# EAGLE library part OKOKOKEAGLELIBRARIES_LTC3122 (library rose)
LTC3122 DATASHEET:http://cds.linear.com/docs/en/datasheet/3122fa.pdf The LTC®3122 is a synchronous step-up DC/DC converter with true output disconnect and inrush current limiting. The 2.5A current limit along with the ability to program output voltages up to 15V makes the LTC3122 well suited for a variety of demanding applications. Once started, operation will continue with inputs down to 500mV, extending runtime in many applications.
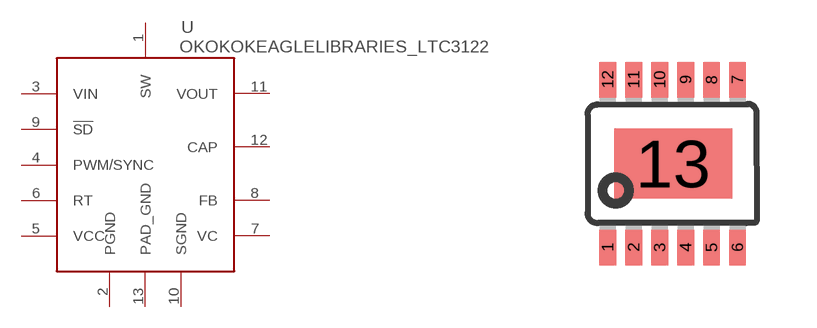
[diagram p4: symbol with the pads of OKOKOKEAGLELIBRARIES_12MSOP; footprint OKOKOKEAGLELIBRARIES_12MSOP]

Designator prefix U

## OKOKOKEAGLELIBRARIES_LTC3122EP (MPN: LTC3122EMSE#PBF)  [OKOKOKEAGLELIBRARIES_12MSOP]
1  SW
2  PGND
3  VIN
4  PWM/SYNC
5  VCC
6  RT
7  VC
8  FB
9  !SD
10  SGND
11  VOUT
12  CAP
13  PAD_GND

## Footprint OKOKOKEAGLELIBRARIES_12MSOP (pad centres in mm)
smd 0.419 x 0.889: 1 -1.61,-2.1; 2 -0.96,-2.1; 3 -0.31,-2.1; 4 0.34,-2.1; 5 0.988,-2.1; 6 1.635,-2.1; 7 1.635,2.1; 8 0.988,2.1; 9 0.34,2.1; 10 -0.31,2.1; 11 -0.96,2.1; 12 -1.61,2.1
smd 2.946 x 1.75: 13 0.025,0